# EAGLE library part TUSB2046B (library ic-TI)
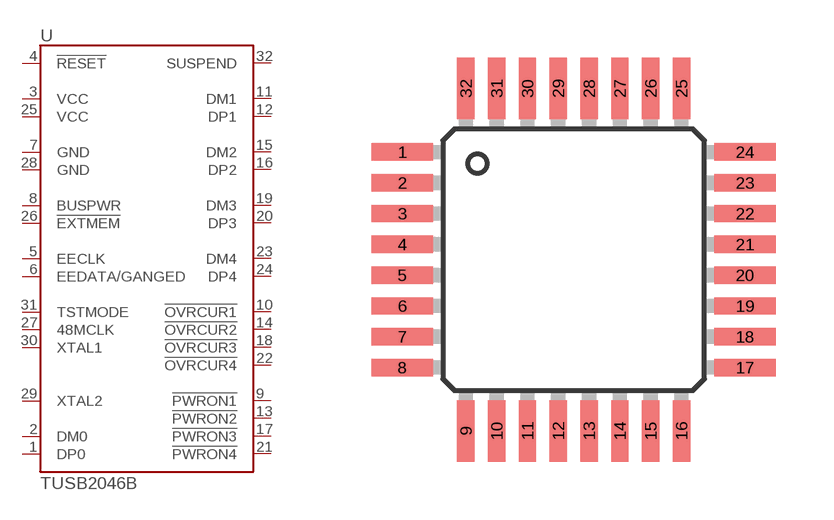
[diagram p22: symbol with the pads of QFP32-0.8; footprint QFP32-0.8]

Designator prefix U

## TUSB2046B  [QFP32-0.8]
1  DP0
2  DM0
3  VCC
4  !RESET
5  EECLK
6  EEDATA/GANGED
7  GND
8  BUSPWR
9  !PWRON1
10  !OVRCUR1
11  DM1
12  DP1
13  !PWRON2
14  !OVRCUR2
15  DM2
16  DP2
17  !PWRON3
18  !OVRCUR3
19  DM3
20  DP3
21  !PWRON4
22  !OVRCUR4
23  DM4
24  DP4
25  VCC
26  !EXTMEM
27  48MCLK
28  GND
29  XTAL2
30  XTAL1
31  TSTMODE
32  SUSPEND

## Footprint QFP32-0.8 (pad centres in mm)
smd 1.6 x 0.45: 1 -4.45,2.8; 2 -4.45,2; 3 -4.45,1.2; 4 -4.45,0.4; 5 -4.45,-0.4; 6 -4.45,-1.2; 7 -4.45,-2; 8 -4.45,-2.8; 17 4.45,-2.8; 18 4.45,-2; 19 4.45,-1.2; 20 4.45,-0.4; 21 4.45,0.4; 22 4.45,1.2; 23 4.45,2; 24 4.45,2.8
smd 0.45 x 1.6: 9 -2.8,-4.45; 10 -2,-4.45; 11 -1.2,-4.45; 12 -0.4,-4.45; 13 0.4,-4.45; 14 1.2,-4.45; 15 2,-4.45; 16 2.8,-4.45; 25 2.8,4.45; 26 2,4.45; 27 1.2,4.45; 28 0.4,4.45; 29 -0.4,4.45; 30 -1.2,4.45; 31 -2,4.45; 32 -2.8,4.45